# EAGLE library part SYNAPSE_RFE (library SynapseWireless)
Synapse RF Engine module. Mfgr part #: RF100xxx
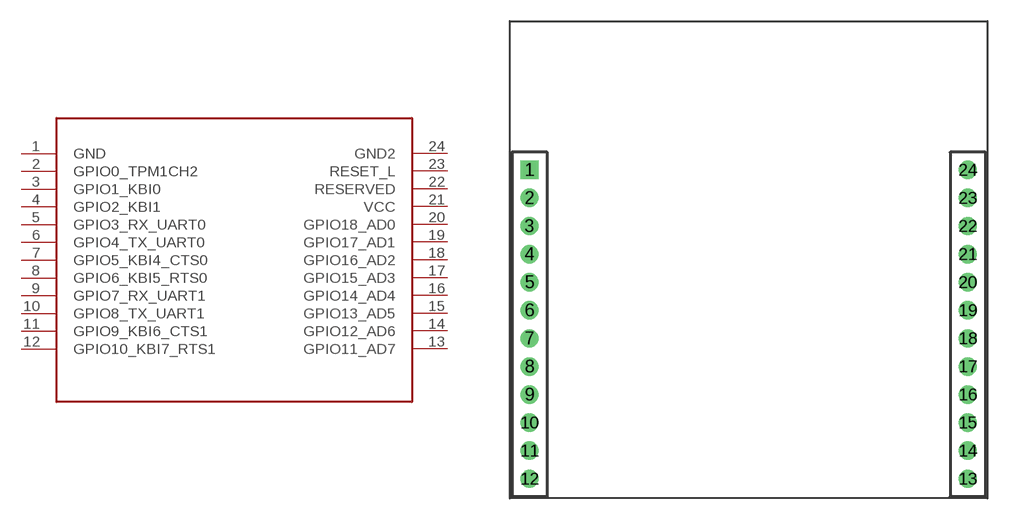
[diagram p0: symbol with the pads of SYNAPSE-RFE; footprint SYNAPSE-RFE]

Designator prefix -

## SYNAPSE_RFE  [SYNAPSE-RFE]
1  GND  in
2  GPIO0_TPM1CH2
3  GPIO1_KBI0
4  GPIO2_KBI1
5  GPIO3_RX_UART0
6  GPIO4_TX_UART0
7  GPIO5_KBI4_CTS0
8  GPIO6_KBI5_RTS0
9  GPIO7_RX_UART1
10  GPIO8_TX_UART1
11  GPIO9_KBI6_CTS1
12  GPIO10_KBI7_RTS1
13  GPIO11_AD7
14  GPIO12_AD6
15  GPIO13_AD5
16  GPIO14_AD4
17  GPIO15_AD3
18  GPIO16_AD2
19  GPIO17_AD1
20  GPIO18_AD0
21  VCC  pwr
22  RESERVED  nc
23  RESET_L  in
24  GND2  in

## Footprint SYNAPSE-RFE (pad centres in mm)
Synapse RF Engine module
drill 0.8 square: 1 0,22
drill 0.8 round: 2 0,20; 3 0,18; 4 0,16; 5 0,14; 6 0,12; 7 0,10; 8 0,8; 9 0,6; 10 0,4; 11 0,2; 12 0,0; 13 31.2,0; 14 31.2,2; 15 31.2,4; 16 31.2,6; 17 31.2,8; 18 31.2,10; 19 31.2,12; 20 31.2,14; 21 31.2,16; 22 31.2,18; 23 31.2,20; 24 31.2,22